# Altium footprint library WR-TBL_Pluggable Connector_7.62mm.PcbLib: 79 footprints (part 1 of 5)
Each footprint in its own frame and in the unit in brackets; x right, y up, seen from the top. Pads: shape width x height; smd on the part's side, far side on the other; paste and mask are expansions set on the pad; w line width, h text height; cw(c..) or ccw(c..) is an arc to the next point about the centre after c.
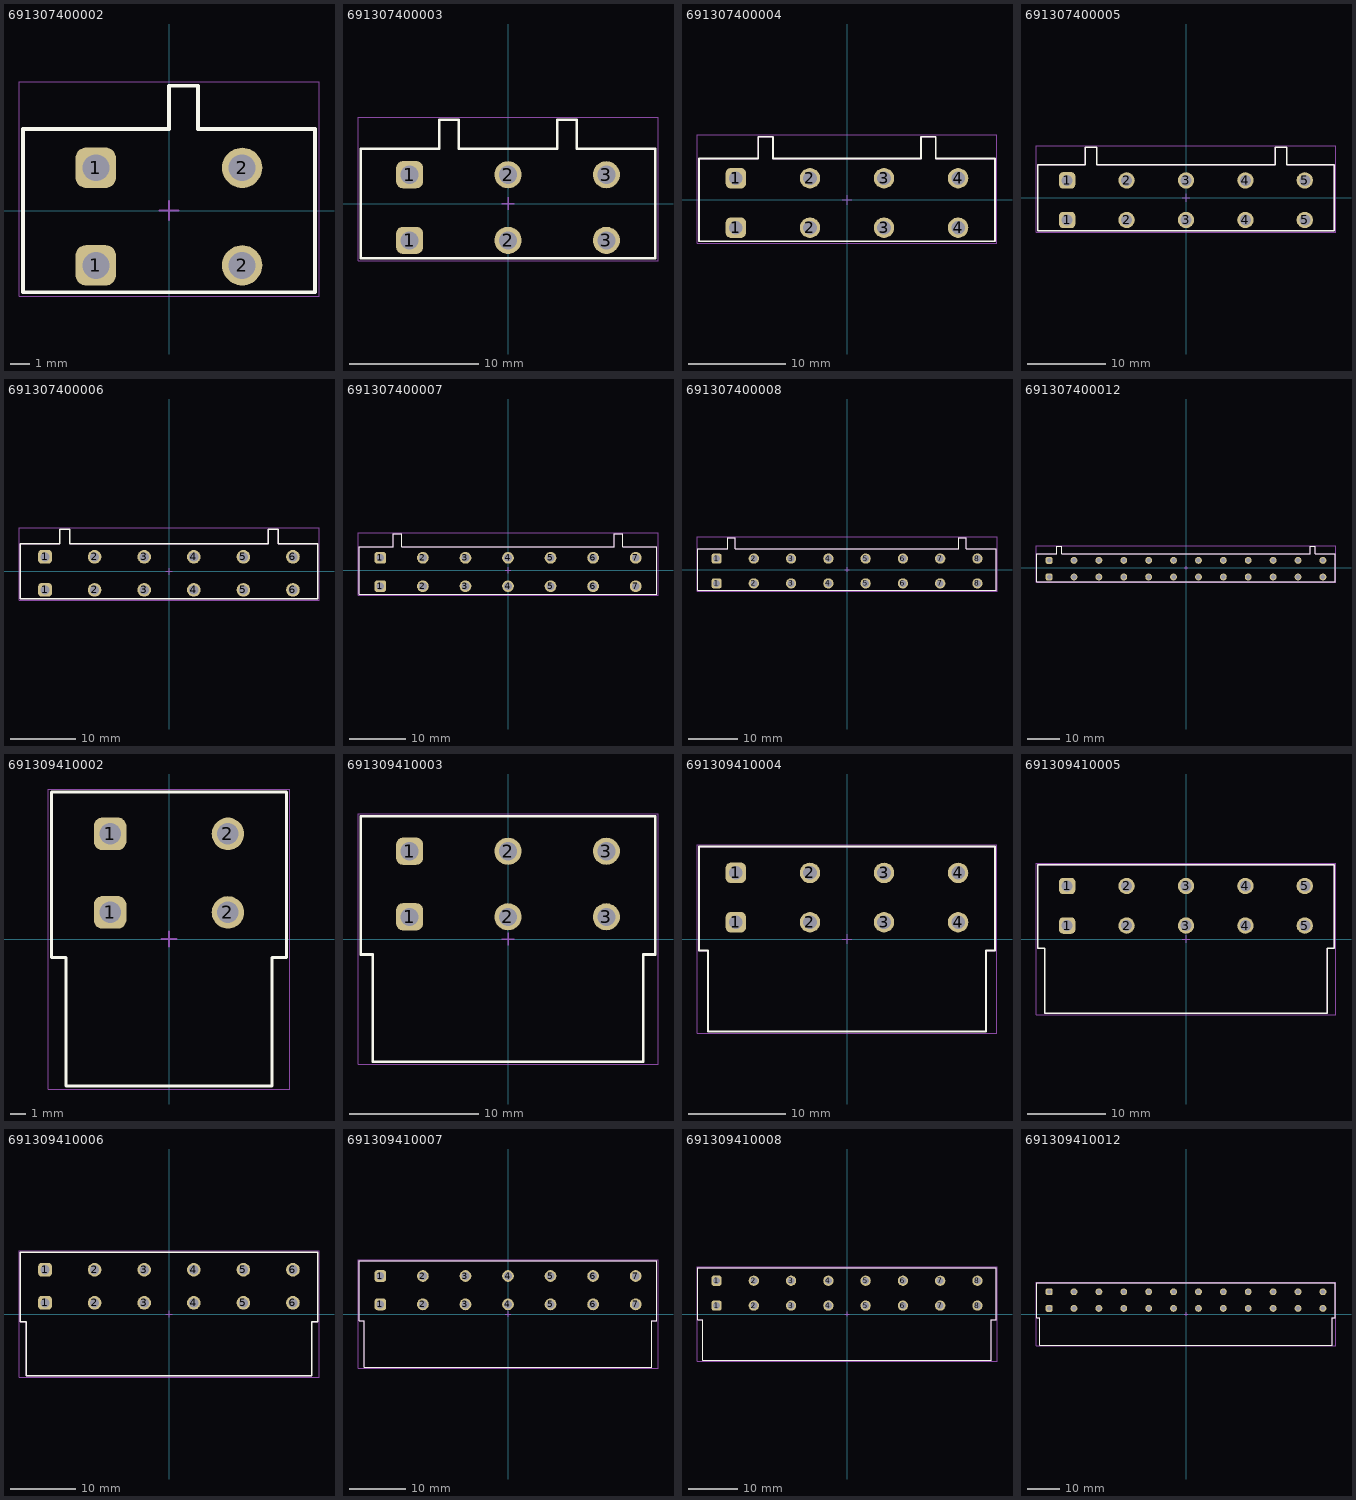
[diagram p0: the footprints below, top view; thin cyan lines are the x and y axes]

## 691307400002 [mm] "7.62 mm - Reversed Gender Vertical PCB Header - 02p"
height 19
pads (4):
  rrect50% 2.1x2.1 hole 1.4: 1(-3.81,-2.85) 1(-3.81,2.23)
  round 2.1 hole 1.4: 2(3.81,-2.85) 2(3.81,2.23)
Top Overlay:
  lines w0.2: -7.61,-4.25 -7.61,4.25 0,4.25 0,6.5 1.51,6.5 1.51,4.25 7.61,4.25 7.61,-4.25 -7.61,-4.25
Top Assembly:
  lines w0.1: -7.61,-4.25 7.61,-4.25 7.61,4.25 1.51,4.25 1.51,6.5 0,6.5 0,4.25 -7.61,4.25 -7.61,-4.25
Top Designator:
  text ".Designator" at -3.647,-0.357 h1
Top 3D Body:
  lines w0.1: -7.61,-4.25 -7.61,4.25 0,4.25 0,6.5 1.51,6.5 1.51,4.25 7.61,4.25 7.61,-4.25 -7.61,-4.25
Top Courtyard:
  lines w0.05: -7.81,-4.45 7.81,-4.45 7.81,6.7 -7.81,6.7 -7.81,-4.45
Top Component Center:
  lines w0.1: -0.5,0 0.5,0 ; 0,-0.5 0,0.5
3D body "691307400002.stp": height 19.05, standoff -3.45, extent -7.61,-4.25 7.61,6.5

## 691307400003 [mm] "7.62 mm - Reversed Gender Vertical PCB Header - 03p"
height 19
pads (6):
  rrect50% 2.1x2.1 hole 1.4: 1(-7.62,-2.85) 1(-7.62,2.23)
  round 2.1 hole 1.4: 2(0,-2.85) 2(0,2.23) 3(7.62,-2.85) 3(7.62,2.23)
Top Overlay:
  lines w0.2: 3.81,4.25 -3.81,4.25 -3.81,6.5 -5.32,6.5 -5.32,4.25 -11.42,4.25 -11.42,-4.25 11.42,-4.25 11.42,4.25 5.32,4.25 5.32,6.5 3.81,6.5 3.81,4.26
Top Assembly:
  lines w0.1: 3.81,4.25 -3.81,4.25 -3.81,6.5 -5.32,6.5 -5.32,4.25 -11.42,4.25 -11.42,-4.25 11.42,-4.25 11.42,4.25 5.32,4.25 5.32,6.5 3.81,6.5 3.81,4.26
Top Designator:
  text ".Designator" at -3.647,-0.357 h1
Top 3D Body:
  lines w0.1: 3.81,4.25 -3.81,4.25 -3.81,6.5 -5.32,6.5 -5.32,4.25 -11.42,4.25 -11.42,-4.25 11.42,-4.25 11.42,4.25 5.32,4.25 5.32,6.5 3.81,6.5 3.81,4.26
Top Courtyard:
  lines w0.05: -11.62,-4.45 11.62,-4.45 11.62,6.7 -11.62,6.7 -11.62,-4.45
Top Component Center:
  lines w0.1: -0.5,0 0.5,0 ; 0,-0.5 0,0.5
3D body "691307400003.stp": height 19.05, standoff -3.45, extent -11.42,-4.25 11.42,6.5

## 691307400004 [mm] "7.62 mm - Reversed Gender Vertical PCB Header - 04p"
height 19
pads (8):
  rrect50% 2.1x2.1 hole 1.4: 1(-11.43,-2.85) 1(-11.43,2.23)
  round 2.1 hole 1.4: 2(-3.81,-2.85) 2(-3.81,2.23) 3(3.81,-2.85) 3(3.81,2.23) 4(11.43,-2.85) 4(11.43,2.23)
Top Overlay:
  lines w0.2: 7.62,4.25 -7.62,4.25 -7.62,6.5 -9.13,6.5 -9.13,4.25 -15.23,4.25 -15.23,-4.25 15.23,-4.25 15.23,4.25 9.13,4.25 9.13,6.5 7.62,6.5 7.62,4.26
Top Assembly:
  lines w0.1: 7.62,4.25 -7.62,4.25 -7.62,6.5 -9.13,6.5 -9.13,4.25 -15.23,4.25 -15.23,-4.25 15.23,-4.25 15.23,4.25 9.13,4.25 9.13,6.5 7.62,6.5 7.62,4.26
Top Designator:
  text ".Designator" at -3.647,-0.357 h1
Top 3D Body:
  lines w0.1: 7.62,4.25 -7.62,4.25 -7.62,6.5 -9.13,6.5 -9.13,4.25 -15.23,4.25 -15.23,-4.25 15.23,-4.25 15.23,4.25 9.13,4.25 9.13,6.5 7.62,6.5 7.62,4.26
Top Courtyard:
  lines w0.05: -15.43,-4.45 15.43,-4.45 15.43,6.7 -15.43,6.7 -15.43,-4.45
Top Component Center:
  lines w0.1: -0.5,0 0.5,0 ; 0,-0.5 0,0.5
3D body "691307400004.stp": height 19.05, standoff -3.45, extent -15.23,-4.25 15.23,6.5

## 691307400005 [mm] "7.62 mm - Reversed Gender Vertical PCB Header - 05p"
height 19
pads (10):
  rrect50% 2.1x2.1 hole 1.4: 1(-15.24,-2.85) 1(-15.24,2.23)
  round 2.1 hole 1.4: 2(-7.62,-2.85) 2(-7.62,2.23) 3(0,-2.85) 3(0,2.23) 4(7.62,-2.85) 4(7.62,2.23) 5(15.24,-2.85) 5(15.24,2.23)
Top Overlay:
  lines w0.2: 11.43,4.25 -11.43,4.25 -11.43,6.5 -12.94,6.5 -12.94,4.25 -19.04,4.25 -19.04,-4.25 19.04,-4.25 19.04,4.25 12.94,4.25 12.94,6.5 11.43,6.5 11.43,4.26
Top Assembly:
  lines w0.1: 11.43,4.25 -11.43,4.25 -11.43,6.5 -12.94,6.5 -12.94,4.25 -19.04,4.25 -19.04,-4.25 19.04,-4.25 19.04,4.25 12.94,4.25 12.94,6.5 11.43,6.5 11.43,4.26
Top Designator:
  text ".Designator" at -3.647,-0.357 h1
Top 3D Body:
  lines w0.1: 11.43,4.25 -11.43,4.25 -11.43,6.5 -12.94,6.5 -12.94,4.25 -19.04,4.25 -19.04,-4.25 19.04,-4.25 19.04,4.25 12.94,4.25 12.94,6.5 11.43,6.5 11.43,4.26
Top Courtyard:
  lines w0.05: -19.24,-4.45 -19.24,6.7 19.24,6.7 19.24,-4.45 -19.24,-4.45
Top Component Center:
  lines w0.1: -0.5,0 0.5,0 ; 0,-0.5 0,0.5
3D body "691307400005.stp": height 19.05, standoff -3.45, extent -19.04,-4.25 19.04,6.5

## 691307400006 [mm] "7.62 mm - Reversed Gender Vertical PCB Header - 06p"
height 19
pads (12):
  rrect50% 2.1x2.1 hole 1.4: 1(-19.05,-2.85) 1(-19.05,2.23)
  round 2.1 hole 1.4: 2(-11.43,-2.85) 2(-11.43,2.23) 3(-3.81,-2.85) 3(-3.81,2.23) 4(3.81,-2.85) 4(3.81,2.23) 5(11.43,-2.85) 5(11.43,2.23) 6(19.05,-2.85) 6(19.05,2.23)
Top Overlay:
  lines w0.2: 15.24,4.25 -15.24,4.25 -15.24,6.5 -16.75,6.5 -16.75,4.25 -22.85,4.25 -22.85,-4.25 22.85,-4.25 22.85,4.25 16.75,4.25 16.75,6.5 15.24,6.5 15.24,4.26
Top Assembly:
  lines w0.1: 15.24,4.25 -15.24,4.25 -15.24,6.5 -16.75,6.5 -16.75,4.25 -22.85,4.25 -22.85,-4.25 22.85,-4.25 22.85,4.25 16.75,4.25 16.75,6.5 15.24,6.5 15.24,4.26
Top Designator:
  text ".Designator" at -3.647,-0.357 h1
Top 3D Body:
  lines w0.1: 15.24,4.25 -15.24,4.25 -15.24,6.5 -16.75,6.5 -16.75,4.25 -22.85,4.25 -22.85,-4.25 22.85,-4.25 22.85,4.25 16.75,4.25 16.75,6.5 15.24,6.5 15.24,4.26
Top Courtyard:
  lines w0.05: -23.05,-4.45 -23.05,6.7 23.05,6.7 23.05,-4.45 -23.05,-4.45
Top Component Center:
  lines w0.1: -0.5,0 0.5,0 ; 0,-0.5 0,0.5
3D body "691307400006.stp": height 19.05, standoff -3.45, extent -22.85,-4.25 22.85,6.5

## 691307400007 [mm] "7.62 mm - Reversed Gender Vertical PCB Header - 07p"
height 19
pads (14):
  rrect50% 2.1x2.1 hole 1.4: 1(-22.86,-2.85) 1(-22.86,2.23)
  round 2.1 hole 1.4: 2(-15.24,-2.85) 2(-15.24,2.23) 3(-7.62,-2.85) 3(-7.62,2.23) 4(0,-2.85) 4(0,2.23) 5(7.62,-2.85) 5(7.62,2.23) 6(15.24,-2.85) 6(15.24,2.23) 7(22.86,-2.85) 7(22.86,2.23)
Top Overlay:
  lines w0.2: 19.05,4.25 -19.05,4.25 -19.05,6.5 -20.56,6.5 -20.56,4.25 -26.66,4.25 -26.66,-4.25 26.66,-4.25 26.66,4.25 20.56,4.25 20.56,6.5 19.05,6.5 19.05,4.26
Top Assembly:
  lines w0.1: 19.05,4.25 -19.05,4.25 -19.05,6.5 -20.56,6.5 -20.56,4.25 -26.66,4.25 -26.66,-4.25 26.66,-4.25 26.66,4.25 20.56,4.25 20.56,6.5 19.05,6.5 19.05,4.26
Top Designator:
  text ".Designator" at -3.647,-0.357 h1
Top 3D Body:
  lines w0.1: 19.05,4.25 -19.05,4.25 -19.05,6.5 -20.56,6.5 -20.56,4.25 -26.66,4.25 -26.66,-4.25 26.66,-4.25 26.66,4.25 20.56,4.25 20.56,6.5 19.05,6.5 19.05,4.26
Top Courtyard:
  lines w0.05: -26.86,-4.45 26.86,-4.45 26.86,6.7 -26.86,6.7 -26.86,-4.45
Top Component Center:
  lines w0.1: -0.5,0 0.5,0 ; 0,-0.5 0,0.5
3D body "691307400007.stp": height 19.05, standoff -3.45, extent -26.66,-4.25 26.66,6.5

## 691307400008 [mm] "7.62 mm - Reversed Gender Vertical PCB Header - 08p"
height 19
pads (16):
  rrect50% 2.1x2.1 hole 1.4: 1(-26.67,-2.85) 1(-26.67,2.23)
  round 2.1 hole 1.4: 2(-19.05,-2.85) 2(-19.05,2.23) 3(-11.43,-2.85) 3(-11.43,2.23) 4(-3.81,-2.85) 4(-3.81,2.23) 5(3.81,-2.85) 5(3.81,2.23) 6(11.43,-2.85) 6(11.43,2.23) 7(19.05,-2.85) 7(19.05,2.23) 8(26.67,-2.85) 8(26.67,2.23)
Top Overlay:
  lines w0.2: 22.86,4.25 -22.86,4.25 -22.86,6.5 -24.37,6.5 -24.37,4.25 -30.47,4.25 -30.47,-4.25 30.47,-4.25 30.47,4.25 24.37,4.25 24.37,6.5 22.86,6.5 22.86,4.26
Top Assembly:
  lines w0.1: 22.86,4.25 -22.86,4.25 -22.86,6.5 -24.37,6.5 -24.37,4.25 -30.47,4.25 -30.47,-4.25 30.47,-4.25 30.47,4.25 24.37,4.25 24.37,6.5 22.86,6.5 22.86,4.26
Top Designator:
  text ".Designator" at -3.647,-0.357 h1
Top 3D Body:
  lines w0.1: 22.86,4.25 -22.86,4.25 -22.86,6.5 -24.37,6.5 -24.37,4.25 -30.47,4.25 -30.47,-4.25 30.47,-4.25 30.47,4.25 24.37,4.25 24.37,6.5 22.86,6.5 22.86,4.26
Top Courtyard:
  lines w0.05: -30.67,-4.45 -30.67,6.7 30.67,6.7 30.67,-4.45 -30.67,-4.45
Top Component Center:
  lines w0.1: -0.5,0 0.5,0 ; 0,-0.5 0,0.5
3D body "691307400008.stp": height 19.05, standoff -3.45, extent -30.47,-4.25 30.47,6.5

## 691307400012 [mm] "7.62 mm - Reversed Gender Vertical PCB Header - 12p"
height 19
pads (24):
  rrect50% 2.1x2.1 hole 1.4: 1(-41.91,-2.85) 1(-41.91,2.23)
  round 2.1 hole 1.4: 2(-34.29,-2.85) 2(-34.29,2.23) 3(-26.67,-2.85) 3(-26.67,2.23) 4(-19.05,-2.85) 4(-19.05,2.23) 5(-11.43,-2.85) 5(-11.43,2.23) 6(-3.81,-2.85) 6(-3.81,2.23) 7(3.81,-2.85) 7(3.81,2.23) 8(11.43,-2.85) 8(11.43,2.23) 9(19.05,-2.85) 9(19.05,2.23) 10(26.67,-2.85) 10(26.67,2.23) 11(34.29,-2.85) 11(34.29,2.23) 12(41.91,-2.85) 12(41.91,2.23)
Top Overlay:
  lines w0.2: 38.1,4.25 -38.1,4.25 -38.1,6.5 -39.61,6.5 -39.61,4.25 -45.71,4.25 -45.71,-4.25 45.71,-4.25 45.71,4.25 39.61,4.25 39.61,6.5 38.1,6.5 38.1,4.26
Top Assembly:
  lines w0.1: 38.1,4.25 -38.1,4.25 -38.1,6.5 -39.61,6.5 -39.61,4.25 -45.71,4.25 -45.71,-4.25 45.71,-4.25 45.71,4.25 39.61,4.25 39.61,6.5 38.1,6.5 38.1,4.26
Top Designator:
  text ".Designator" at -3.647,-0.357 h1
Top 3D Body:
  lines w0.1: 38.1,4.25 -38.1,4.25 -38.1,6.5 -39.61,6.5 -39.61,4.25 -45.71,4.25 -45.71,-4.25 45.71,-4.25 45.71,4.25 39.61,4.25 39.61,6.5 38.1,6.5 38.1,4.26
Top Courtyard:
  lines w0.05: -45.91,-4.45 45.91,-4.45 45.91,6.7 -45.91,6.7 -45.91,-4.45
Top Component Center:
  lines w0.1: -0.5,0 0.5,0 ; 0,-0.5 0,0.5
3D body "691307400012.stp": height 19.05, standoff -3.45, extent -45.71,-4.25 45.71,6.5

## 691309410002 [mm] "7.62 mm - Reversed Gender Horizontal PCB Header - 02p"
height 8.6
pads (4):
  rrect50% 2.1x2.1 hole 1.4: 1(-3.81,1.72) 1(-3.81,6.8)
  round 2.1 hole 1.4: 2(3.81,1.72) 2(3.81,6.8)
Top Overlay:
  lines w0.2: -7.61,-1.2 -7.61,9.5 7.61,9.5 7.61,-1.2 6.67,-1.2 6.67,-9.5 -6.67,-9.5 -6.67,-1.2 -7.61,-1.2
Top Assembly:
  lines w0.1: -7.61,-1.2 -6.67,-1.2 -6.67,-9.5 6.67,-9.5 6.67,-1.2 7.61,-1.2 7.61,9.5 -7.61,9.5 -7.61,-1.2
Top Designator:
  text ".Designator" at -3.647,-0.357 h1
Top 3D Body:
  lines w0.1: -7.61,-1.2 -7.61,9.5 7.61,9.5 7.61,-1.2 6.67,-1.2 6.67,-9.5 -6.67,-9.5 -6.67,-1.2 -7.61,-1.2
Top Courtyard:
  lines w0.05: -7.81,-9.7 -7.81,9.7 7.81,9.7 7.81,-9.7 -7.81,-9.7
Top Component Center:
  lines w0.1: -0.5,0 0.5,0 ; 0,-0.5 0,0.5
3D body "691309410002.stp": height 10.8, standoff -3.45, extent -7.61,-9.5 7.61,9.5

## 691309410003 [mm] "7.62 mm - Reversed Gender Horizontal PCB Header - 03p"
height 8.6
pads (6):
  rrect50% 2.1x2.1 hole 1.4: 1(-7.62,1.72) 1(-7.62,6.8)
  round 2.1 hole 1.4: 2(0,1.72) 2(0,6.8) 3(7.62,1.72) 3(7.62,6.8)
Top Overlay:
  lines w0.2: -11.42,-1.2 -11.42,9.5 11.42,9.5 11.42,-1.2 10.48,-1.2 10.48,-9.5 -10.48,-9.5 -10.48,-1.2 -11.42,-1.2
Top Assembly:
  lines w0.1: -11.42,-1.2 -10.48,-1.2 -10.48,-9.5 10.48,-9.5 10.48,-1.2 11.42,-1.2 11.42,9.5 -11.42,9.5 -11.42,-1.2
Top Designator:
  text ".Designator" at -3.647,-0.357 h1
Top 3D Body:
  lines w0.1: -11.42,-1.2 -11.42,9.5 11.42,9.5 11.42,-1.2 10.48,-1.2 10.48,-9.5 -10.48,-9.5 -10.48,-1.2 -11.42,-1.2
Top Courtyard:
  lines w0.05: -11.62,-9.7 -11.62,9.7 11.62,9.7 11.62,-9.7 -11.62,-9.7
Top Component Center:
  lines w0.1: -0.5,0 0.5,0 ; 0,-0.5 0,0.5
3D body "691309410003.stp": height 10.8, standoff -3.45, extent -11.42,-9.5 11.42,9.5

## 691309410004 [mm] "7.62 mm - Reversed Gender Horizontal PCB Header - 04p"
height 8.6
pads (8):
  rrect50% 2.1x2.1 hole 1.4: 1(-11.43,1.72) 1(-11.43,6.8)
  round 2.1 hole 1.4: 2(-3.81,1.72) 2(-3.81,6.8) 3(3.81,1.72) 3(3.81,6.8) 4(11.43,1.72) 4(11.43,6.8)
Top Overlay:
  lines w0.2: -15.23,-1.2 -14.29,-1.2 -14.29,-9.5 14.29,-9.5 14.29,-1.2 15.23,-1.2 15.23,9.5 -15.23,9.5 -15.23,-1.2
Top Assembly:
  lines w0.1: -15.23,-1.2 -15.23,9.5 15.23,9.5 15.23,-1.2 14.29,-1.2 14.29,-9.5 -14.29,-9.5 -14.29,-1.2 -15.23,-1.2
Top Designator:
  text ".Designator" at -3.647,-0.357 h1
Top 3D Body:
  lines w0.1: -15.23,-1.2 -14.29,-1.2 -14.29,-9.5 14.29,-9.5 14.29,-1.2 15.23,-1.2 15.23,9.5 -15.23,9.5 -15.23,-1.2
Top Courtyard:
  lines w0.05: -15.43,-9.7 15.43,-9.7 15.43,9.7 -15.43,9.7 -15.43,-9.7
Top Component Center:
  lines w0.1: -0.5,0 0.5,0 ; 0,-0.5 0,0.5
3D body "691309410004.stp": height 10.8, standoff -3.45, extent -15.23,-9.5 15.23,9.5

## 691309410005 [mm] "7.62 mm - Reversed Gender Horizontal PCB Header - 05p"
height 8.6
pads (10):
  rrect50% 2.1x2.1 hole 1.4: 1(-15.24,1.72) 1(-15.24,6.8)
  round 2.1 hole 1.4: 2(-7.62,1.72) 2(-7.62,6.8) 3(0,1.72) 3(0,6.8) 4(7.62,1.72) 4(7.62,6.8) 5(15.24,1.72) 5(15.24,6.8)
Top Overlay:
  lines w0.2: -19.04,-1.2 -18.1,-1.2 -18.1,-9.5 18.1,-9.5 18.1,-1.2 19.04,-1.2 19.04,9.5 -19.04,9.5 -19.04,-1.2
Top Assembly:
  lines w0.1: -19.04,-1.2 -19.04,9.5 19.04,9.5 19.04,-1.2 18.1,-1.2 18.1,-9.5 -18.1,-9.5 -18.1,-1.2 -19.04,-1.2
Top Designator:
  text ".Designator" at -3.647,-0.357 h1
Top 3D Body:
  lines w0.1: -19.04,-1.2 -18.1,-1.2 -18.1,-9.5 18.1,-9.5 18.1,-1.2 19.04,-1.2 19.04,9.5 -19.04,9.5 -19.04,-1.2
Top Courtyard:
  lines w0.05: -19.24,-9.7 19.24,-9.7 19.24,9.7 -19.24,9.7 -19.24,-9.7
Top Component Center:
  lines w0.1: -0.5,0 0.5,0 ; 0,-0.5 0,0.5
3D body "691309410005.stp": height 10.8, standoff -3.45, extent -19.04,-9.5 19.04,9.5

## 691309410006 [mm] "7.62 mm - Reversed Gender Horizontal PCB Header - 06p"
height 8.6
pads (12):
  rrect50% 2.1x2.1 hole 1.4: 1(-19.05,1.72) 1(-19.05,6.8)
  round 2.1 hole 1.4: 2(-11.43,1.72) 2(-11.43,6.8) 3(-3.81,1.72) 3(-3.81,6.8) 4(3.81,1.72) 4(3.81,6.8) 5(11.43,1.72) 5(11.43,6.8) 6(19.05,1.72) 6(19.05,6.8)
Top Overlay:
  lines w0.2: -22.85,-1.2 -22.85,9.5 22.85,9.5 22.85,-1.2 21.91,-1.2 21.91,-9.5 -21.91,-9.5 -21.91,-1.2 -22.85,-1.2
Top Assembly:
  lines w0.1: -22.85,-1.2 -21.91,-1.2 -21.91,-9.5 21.91,-9.5 21.91,-1.2 22.85,-1.2 22.85,9.5 -22.85,9.5 -22.85,-1.2
Top Designator:
  text ".Designator" at -3.647,-0.357 h1
Top 3D Body:
  lines w0.1: -22.85,-1.2 -22.85,9.5 22.85,9.5 22.85,-1.2 21.91,-1.2 21.91,-9.5 -21.91,-9.5 -21.91,-1.2 -22.85,-1.2
Top Courtyard:
  lines w0.05: -23.05,-9.7 -23.05,9.7 23.05,9.7 23.05,-9.7 -23.05,-9.7
Top Component Center:
  lines w0.1: -0.5,0 0.5,0 ; 0,-0.5 0,0.5
3D body "691309410006.stp": height 10.8, standoff -3.45, extent -22.85,-9.5 22.85,9.5

## 691309410007 [mm] "7.62 mm - Reversed Gender Horizontal PCB Header - 07p"
height 8.6
pads (14):
  rrect50% 2.1x2.1 hole 1.4: 1(-22.86,1.72) 1(-22.86,6.8)
  round 2.1 hole 1.4: 2(-15.24,1.72) 2(-15.24,6.8) 3(-7.62,1.72) 3(-7.62,6.8) 4(0,1.72) 4(0,6.8) 5(7.62,1.72) 5(7.62,6.8) 6(15.24,1.72) 6(15.24,6.8) 7(22.86,1.72) 7(22.86,6.8)
Top Overlay:
  lines w0.2: -26.66,-1.2 -26.66,9.5 26.66,9.5 26.66,-1.2 25.72,-1.2 25.72,-9.5 -25.72,-9.5 -25.72,-1.2 -26.66,-1.2
Top Assembly:
  lines w0.1: -26.66,-1.2 -25.72,-1.2 -25.72,-9.5 25.72,-9.5 25.72,-1.2 26.66,-1.2 26.66,9.5 -26.66,9.5 -26.66,-1.2
Top Designator:
  text ".Designator" at -3.647,-0.357 h1
Top 3D Body:
  lines w0.1: -26.66,-1.2 -26.66,9.5 26.66,9.5 26.66,-1.2 25.72,-1.2 25.72,-9.5 -25.72,-9.5 -25.72,-1.2 -26.66,-1.2
Top Courtyard:
  lines w0.05: -26.86,-9.7 -26.86,9.7 26.86,9.7 26.86,-9.7 -26.86,-9.7
Top Component Center:
  lines w0.1: -0.5,0 0.5,0 ; 0,-0.5 0,0.5
3D body "691309410007.stp": height 10.8, standoff -3.45, extent -26.66,-9.5 26.66,9.5

## 691309410008 [mm] "7.62 mm - Reversed Gender Horizontal PCB Header - 08p"
height 8.6
pads (16):
  rrect50% 2.1x2.1 hole 1.4: 1(-26.67,1.72) 1(-26.67,6.8)
  round 2.1 hole 1.4: 2(-19.05,1.72) 2(-19.05,6.8) 3(-11.43,1.72) 3(-11.43,6.8) 4(-3.81,1.72) 4(-3.81,6.8) 5(3.81,1.72) 5(3.81,6.8) 6(11.43,1.72) 6(11.43,6.8) 7(19.05,1.72) 7(19.05,6.8) 8(26.67,1.72) 8(26.67,6.8)
Top Overlay:
  lines w0.2: -30.47,-1.2 -29.53,-1.2 -29.53,-9.5 29.53,-9.5 29.53,-1.2 30.47,-1.2 30.47,9.5 -30.47,9.5 -30.47,-1.2
Top Assembly:
  lines w0.1: -30.47,-1.2 -30.47,9.5 30.47,9.5 30.47,-1.2 29.53,-1.2 29.53,-9.5 -29.53,-9.5 -29.53,-1.2 -30.47,-1.2
Top Designator:
  text ".Designator" at -3.647,-0.357 h1
Top 3D Body:
  lines w0.1: -30.47,-1.2 -29.53,-1.2 -29.53,-9.5 29.53,-9.5 29.53,-1.2 30.47,-1.2 30.47,9.5 -30.47,9.5 -30.47,-1.2
Top Courtyard:
  lines w0.05: -30.67,-9.7 30.67,-9.7 30.67,9.7 -30.67,9.7 -30.67,-9.7
Top Component Center:
  lines w0.1: -0.5,0 0.5,0 ; 0,-0.5 0,0.5
3D body "691309410008.stp": height 10.8, standoff -3.45, extent -30.47,-9.5 30.47,9.5

## 691309410012 [mm] "7.62 mm - Reversed Gender Horizontal PCB Header - 12p"
height 8.6
pads (24):
  rrect50% 2.1x2.1 hole 1.4: 1(-41.91,1.72) 1(-41.91,6.8)
  round 2.1 hole 1.4: 2(-34.29,1.72) 2(-34.29,6.8) 3(-26.67,1.72) 3(-26.67,6.8) 4(-19.05,1.72) 4(-19.05,6.8) 5(-11.43,1.72) 5(-11.43,6.8) 6(-3.81,1.72) 6(-3.81,6.8) 7(3.81,1.72) 7(3.81,6.8) 8(11.43,1.72) 8(11.43,6.8) 9(19.05,1.72) 9(19.05,6.8) 10(26.67,1.72) 10(26.67,6.8) 11(34.29,1.72) 11(34.29,6.8) 12(41.91,1.72) 12(41.91,6.8)
Top Overlay:
  lines w0.2: -45.71,-1.2 -44.77,-1.2 -44.77,-9.5 44.77,-9.5 44.77,-1.2 45.71,-1.2 45.71,9.5 -45.71,9.5 -45.71,-1.2
Top Assembly:
  lines w0.1: -45.71,-1.2 -45.71,9.5 45.71,9.5 45.71,-1.2 44.77,-1.2 44.77,-9.5 -44.77,-9.5 -44.77,-1.2 -45.71,-1.2
Top Designator:
  text ".Designator" at -3.647,-0.357 h1
Top 3D Body:
  lines w0.1: -45.71,-1.2 -44.77,-1.2 -44.77,-9.5 44.77,-9.5 44.77,-1.2 45.71,-1.2 45.71,9.5 -45.71,9.5 -45.71,-1.2
Top Courtyard:
  lines w0.05: -45.91,-9.7 45.91,-9.7 45.91,9.7 -45.91,9.7 -45.91,-9.7
Top Component Center:
  lines w0.1: -0.5,0 0.5,0 ; 0,-0.5 0,0.5
3D body "691309410012.stp": height 10.8, standoff -3.45, extent -45.71,-9.5 45.71,9.5